# EAGLE library part 6253XX20621_62533020621 (library 61201021621_Eagle_WR-BHD_rev19b)
WR-BHD 2.00 mm Male SMT Box Header KIND PROPERTIES: Pitch 2 mm Gender:Male MATERIAL PROPERTIES: Insulator Material:PA9T Insulator Flammability Rating UL94 V-0 Insulator Color:Black Contact Material :Copper Alloy Contact Plating :Gold Contact Type: Stamped GENERAL INFORMATION: Operating Temperature:-40 °C up to +125 °C Compliance:RoHS Working Voltage: 250 V (AC) Withstanding Voltage:500 V (AC) Contact Resistance: 20 mΩ Insulation Resistance:1000 MΩ PACKAGING PROPERTIES Packaging :Tape and Reel with Cap <https://katalog.we-online.com/media/images/v2/o32950v209%20Family_WR-BHD_6253xx20621.jpg> Details see: https://katalog.we-online.com/en/em/BHD_2_00_SMT_MALE_BOX_HEADER_6253XX20621 Updated by Yingchun,Shan 2019-11-04 2019 (C) Würth Elektronik
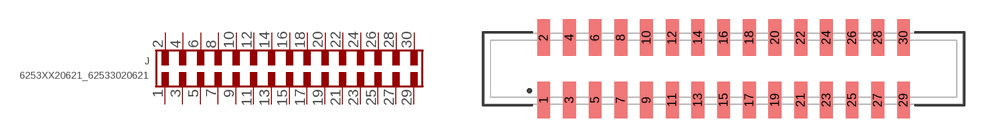
[diagram p72: symbol with the pads of 62533020621; footprint 62533020621]

Designator prefix J

## 6253XX20621_62533020621 (CONTACT-RESISTANCE: 20mOhm; DATASHEET-URL: https://katalog.we-online.com/em/datasheet/62533020621.pdf; GENDER: Male; IR: 2A; L: 37.25mm; MATES: WR-BHD 2.0mm Female IDC Connector with Strain Relief; MOUNT: SMT; PACKAGING: Tape and Reel with Cap; PART-NUMBER: 62533020621; PINS: 30; PITCH: 2mm; TOL-R: max.; TYPE: Straight; WORKING-VOLTAGE: 250V(AC))  [62533020621]
1  1  pas
2  2  pas
3  3  pas
4  4  pas
5  5  pas
6  6  pas
7  7  pas
8  8  pas
9  9  pas
10  10  pas
11  11  pas
12  12  pas
13  13  pas
14  14  pas
15  15  pas
16  16  pas
17  17  pas
18  18  pas
19  19  pas
20  20  pas
21  21  pas
22  22  pas
23  23  pas
24  24  pas
25  25  pas
26  26  pas
27  27  pas
28  28  pas
29  29  pas
30  30  pas

## Footprint 62533020621 (pad centres in mm)
WR-BHD 2.00 mm Male SMT Box Header,30 pins
smd 1 x 2.85: 1 -14,-2.425; 2 -14,2.425; 3 -12,-2.425; 4 -12,2.425; 5 -10,-2.425; 6 -10,2.425; 7 -8,-2.425; 8 -8,2.425; 9 -6,-2.425; 10 -6,2.425; 11 -4,-2.425; 12 -4,2.425; 13 -2,-2.425; 14 -2,2.425; 15 0,-2.425; 16 0,2.425; 17 2,-2.425; 18 2,2.425; 19 4,-2.425; 20 4,2.425; 21 6,-2.425; 22 6,2.425; 23 8,-2.425; 24 8,2.425; 25 10,-2.425; 26 10,2.425; 27 12,-2.425; 28 12,2.425; 29 14,-2.425; 30 14,2.425